# Altium footprint library 新主控制.PcbLib: 56 footprints (part 4 of 4)
Each footprint in its own frame and in the unit in brackets; x right, y up, seen from the top. Pads: shape width x height; smd on the part's side, far side on the other; paste and mask are expansions set on the pad; w line width, h text height; cw(c..) or ccw(c..) is an arc to the next point about the centre after c.
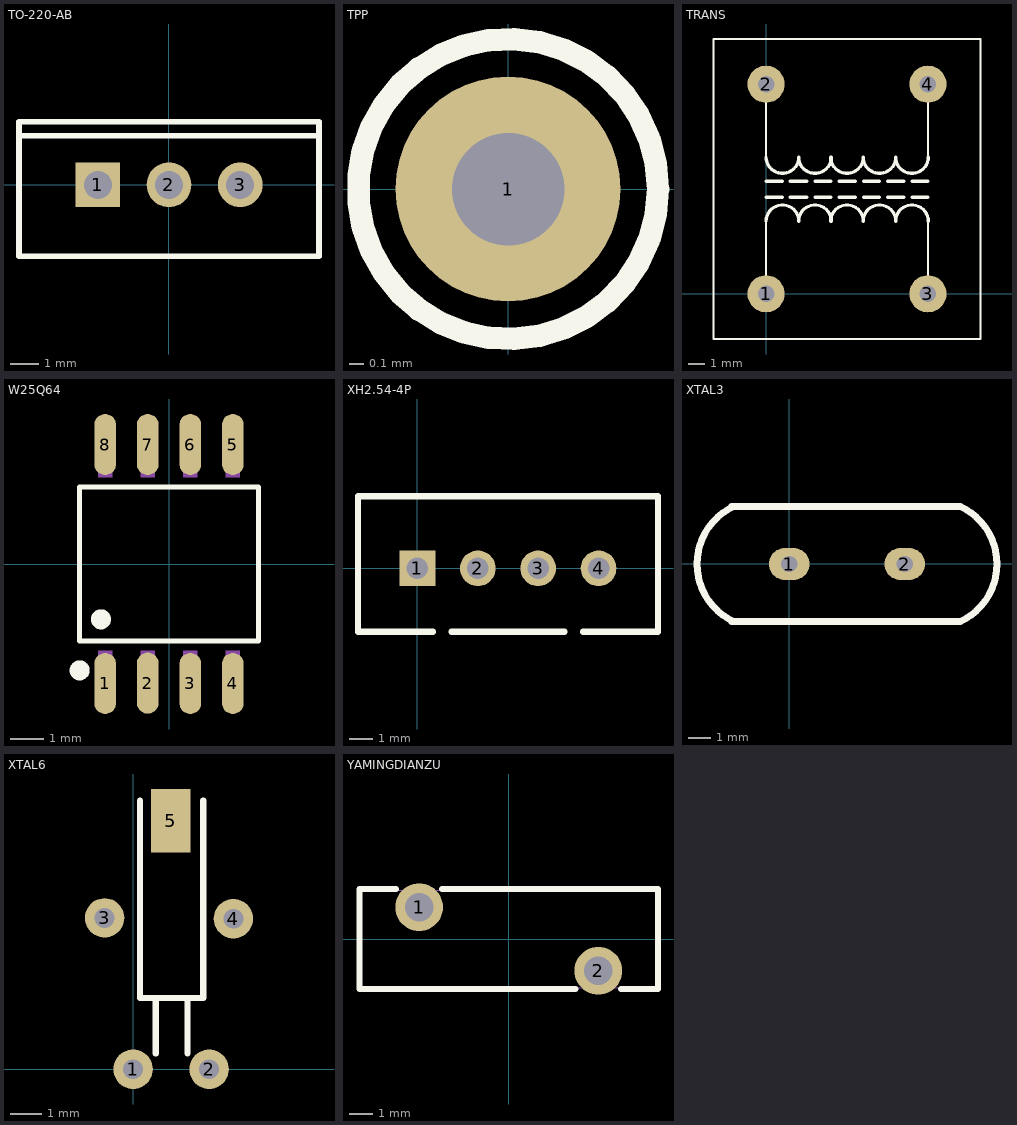
[diagram p3: the footprints below, top view; thin cyan lines are the x and y axes]

## TO-220-AB [mm] "TO, Thru-Hole, Vertical, Heatsink Mounted; 3 In-Line Leads; Pitch 2.54 mm"
height 19.1
pads (3):
  rect 1.6x1.6 hole 1: 1(-2.54,0)
  round 1.6 hole 1: 2(0,0) 3(2.54,0)
Top Overlay:
  lines w0.2: -5.35,1.75 5.35,1.75 ; -5.35,-2.55 5.35,-2.55 5.35,2.25 -5.35,2.25 -5.35,-2.55

## TPP [mil]
height 27.56
pads (1):
  round 60 hole 30: 1(0,0)
Top Overlay:
  circle w6: c0,0 r40

## TRANS [mm]
height 0.7
pads (4):
  round 2.3 hole 1.016: 1(0,0) 2(0,12.954) 3(10.008,0) 4(10.008,12.954)
Top Overlay:
  lines w0.127: -3.251,-2.794 -3.251,-1.524 -3.251,14.351 -3.251,15.748 -2.997,15.748 ; -3.226,-2.794 -1.473,-2.794 11.532,-2.794 ; -3.124,15.748 -1.219,15.748 11.786,15.748 ; 0,-0.025 0,2.464 0,4.47 ; 0,8.458 0,9.957 0,12.471 ; 5.004,-2.794 13.259,-2.794 13.259,-1.524 13.259,14.097 13.259,15.748 13.132,15.748 11.608,15.748 ; 10.008,-0.025 10.008,2.464 10.008,4.47 ; 10.008,8.458 10.008,9.957 10.008,12.471
  lines w0.203: 0,4.47 cw(c1.016,4.47) 2.032,4.47 ; 0,5.969 1.016,5.969 ; 0,6.96 1.016,6.96 ; 0,8.458 ccw(c1.016,8.458) 2.032,8.458 ; 1.499,5.969 2.515,5.969 ; 1.499,6.96 2.515,6.96 ; 2.007,4.47 cw(c3.023,4.47) 4.039,4.47 ; 2.007,8.458 ccw(c3.023,8.458) 4.039,8.458 ; 3.023,5.969 4.013,5.969 ; 3.023,6.96 4.013,6.96 ; 3.988,4.47 cw(c5.004,4.47) 6.02,4.47 ; 3.988,8.458 ccw(c5.004,8.458) 6.02,8.458 ; 4.521,5.969 5.512,5.969 ; 4.521,6.96 5.512,6.96 ; 5.994,4.47 cw(c7.01,4.47) 8.026,4.47 ; 5.994,8.458 ccw(c7.01,8.458) 8.026,8.458 ; 6.02,5.969 7.01,5.969 ; 6.02,6.96 7.01,6.96 ; 7.518,5.969 8.509,5.969 ; 7.518,6.96 8.509,6.96 ; 8.001,4.47 cw(c9.017,4.47) 10.033,4.47 ; 8.001,8.458 ccw(c9.017,8.458) 10.033,8.458 ; 9.017,5.969 10.008,5.969 ; 9.017,6.96 10.008,6.96

## W25Q64 [mm]
height 0.7
pads (8):
  oval 0.65x1.822 smd mask+0.102: 1(-1.905,-3.566) 2(-0.635,-3.556) 3(0.635,-3.566) 4(1.905,-3.566) 5(1.905,3.566) 6(0.635,3.566) 7(-0.635,3.566) 8(-1.905,3.566)
Top Overlay:
  circle w0.3: c-2.032,-1.651 r0.15
  circle w0.3: c-2.667,-3.175 r0.15
  lines w0.152: -2.676,-2.295 2.676,-2.295 2.676,2.295 -2.676,2.295 -2.676,-2.295
Mechanical 6:
  circle w0.3: c-1.905,-3.048 r0.15
Mechanical 15:
  region: -1.695,-3.39 -1.695,-2.59 -2.115,-2.59 -2.115,-3.39
  region: -0.425,-3.39 -0.425,-2.59 -0.845,-2.59 -0.845,-3.39
  region: 0.845,-3.39 0.845,-2.59 0.425,-2.59 0.425,-3.39
  region: 2.115,-3.39 2.115,-2.59 1.695,-2.59 1.695,-3.39
  region: 2.115,3.39 2.115,2.59 1.695,2.59 1.695,3.39
  region: 0.845,3.39 0.845,2.59 0.425,2.59 0.425,3.39
  region: -0.425,3.39 -0.425,2.59 -0.845,2.59 -0.845,3.39
  region: -1.695,3.39 -1.695,2.59 -2.115,2.59 -2.115,3.39

## XH2.54-4P [mm]
height 7
pads (4):
  rect 1.5x1.5 hole 0.9: 1(0,0)
  round 1.5 hole 0.9: 2(2.54,0) 3(5.08,0) 4(7.62,0)
Top Overlay:
  lines w0.254: 0.655,-2.67 -2.5,-2.67 -2.5,3.03 10.12,3.03 10.12,-2.67 6.965,-2.67 ; 1.439,-2.67 6.181,-2.67

## XTAL3 [mm]
height 0.7
pads (2):
  oval 1.8x1.4 hole 0.711: 1(0,0) 2(5.08,0)
Top Overlay:
  lines w0.305: -2.54,-2.54 7.518,-2.54 ; -2.54,2.54 7.518,2.54 ; -2.451,-2.532 cw(c-1.27,0) -2.451,2.532 ; 7.531,-2.532 ccw(c6.35,0) 7.531,2.532

## XTAL6 [mil]
height 27.56
pads (5):
  round 50 hole 25: 1(0,0) 2(96.06,0) 3(-36.09,191.39) 4(126.91,190.39)
  rect 50x80 smd: 5(47.91,314.39)
Top Overlay:
  lines w7.87: 8.69,340 8.69,90 88.69,90 88.69,340 ; 28.69,20 28.69,90 ; 68.69,20 68.69,90

## YAMINGDIANZU [mm]
height 0.7
pads (2):
  round 2 hole 1.2: 1(-3.75,1.33) 2(3.75,-1.33)
Top Overlay:
  lines w0.254: -5.266,2.1 -4.71,2.1 ; -4.981,2.1 -6.25,2.1 -6.25,-2.1 2.519,-2.1 ; -2.79,2.1 -2.286,2.1 6.25,2.1 6.25,-2.1 ; 2.1,-2.1 2.79,-2.1 ; 4.71,-2.1 4.981,-2.1 6.223,-2.1
Mechanical 15:
  region: -6.19,2.05 -6.19,2.075 -6.225,2.11 -6.275,2.11 -6.31,2.075 -6.31,2.05 -6.31,2.025 -6.275,1.99 -6.225,1.99 -6.19,2.025
  region: -3.375,1.33 -3.376,1.404 -3.433,1.541 -3.539,1.645 -3.676,1.702 -3.824,1.702 -3.961,1.645 -4.067,1.541 -4.124,1.404 -4.125,1.33 -4.124,1.256 -4.067,1.119 -3.961,1.015 -3.824,0.958 -3.676,0.958 -3.539,1.015 -3.433,1.119 -3.376,1.256
  region: 4.125,-1.33 4.124,-1.256 4.067,-1.119 3.961,-1.015 3.824,-0.958 3.676,-0.958 3.539,-1.015 3.433,-1.119 3.376,-1.256 3.375,-1.33 3.376,-1.404 3.433,-1.541 3.539,-1.645 3.676,-1.702 3.824,-1.702 3.961,-1.645 4.067,-1.541 4.124,-1.404
  lines w0.051: -6.25,-2.05 -6.25,2.05 6.25,2.05 6.25,-2.05 -6.25,-2.05